# EAGLE library part BQ25505 (library chips_old)
EH front end for switching between primary and secondary cells
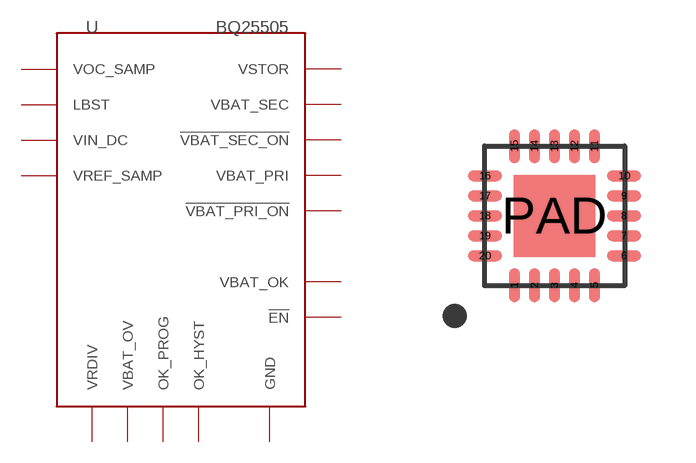
[diagram p84: symbol with the pads of S-PVQFN-N20-RGR; footprint S-PVQFN-N20-RGR]

Designator prefix U

## BQ25505 (DIGIKEY: 296-37078-1-ND; MANUFACTURER: TI; MPN: BQ25505RGRR)  [S-PVQFN-N20-RGR]
1  GND
2  VIN_DC
3  VOC_SAMP
4  VREF_SAMP
5  !EN
6  GND
7  VBAT_OV
8  VRDIV
9  !VBAT_SEC_ON
10  !VBAT_PRI_ON
11  OK_HYST
12  OK_PROG
13  VBAT_OK
14  VBAT_PRI
15  GND
16  GND
17  GND
18  VBAT_SEC
19  VSTOR
20  LBST
PAD  GND

## Footprint S-PVQFN-N20-RGR (pad centres in mm)
smd 0.28 x 0.85: 1 -1,-1.74; 2 -0.5,-1.74; 3 0,-1.74; 4 0.5,-1.74; 5 1,-1.74; 11 1,1.74; 12 0.5,1.74; 13 0,1.74; 14 -0.5,1.74; 15 -1,1.74
smd 0.85 x 0.28: 6 1.74,-1; 7 1.74,-0.5; 8 1.74,0; 9 1.74,0.5; 10 1.74,1; 16 -1.74,1; 17 -1.74,0.5; 18 -1.74,0; 19 -1.74,-0.5; 20 -1.74,-1
smd 2.05 x 2.05: PAD 0,0